# EAGLE library part PI3USB4000DZUAEX (library PI3USB4000DZUAEX)
USB Switch ICs USB2 Switch U-QFN1520-10 T&R 3K Source: Datasheet <https://www.diodes.com//assets/Datasheets/PI3USB4000D.pdf>
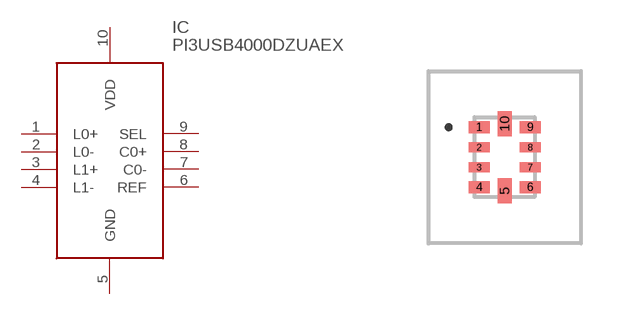
[diagram p0: symbol with the pads of PI3USB4000DZUAEX; footprint PI3USB4000DZUAEX]

Designator prefix IC

## PI3USB4000DZUAEX (Description: USB Switch ICs USB2 Switch U-QFN1520-10 T&R 3K; Height: 0.65mm; Manufacturer_Name: Diodes Incorporated; Manufacturer_Part_Number: PI3USB4000DZUAEX; Mouser_Part_Number: 621-PI3USB4000D; Mouser_Price-Stock: https://www.mouser.co.uk/ProductDetail/Diodes-Incorporated/PI3USB4000DZUAEX?qs=DPoM0jnrROWMqM4Usw1VHA%3D%3D)  [PI3USB4000DZUAEX]
1  L0+
2  L0-
3  L1+
4  L1-
5  GND
6  REF
7  C0-
8  C0+
9  SEL
10  VDD

## Footprint PI3USB4000DZUAEX (pad centres in mm)
PI3USB4000DZUAEX
smd 0.53 x 0.3: 1 -0.64,0.75; 4 -0.64,-0.75; 6 0.64,-0.75; 9 0.64,0.75
smd 0.53 x 0.25: 2 -0.64,0.25; 3 -0.64,-0.25; 7 0.64,-0.25; 8 0.64,0.25
smd 0.35 x 0.63: 5 0,-0.84; 10 0,0.84